# Altium schematic symbol library XSS_Connector.SchLib: 182 symbols
Pins are listed as number, name and electrical type; pins without a type are passive.

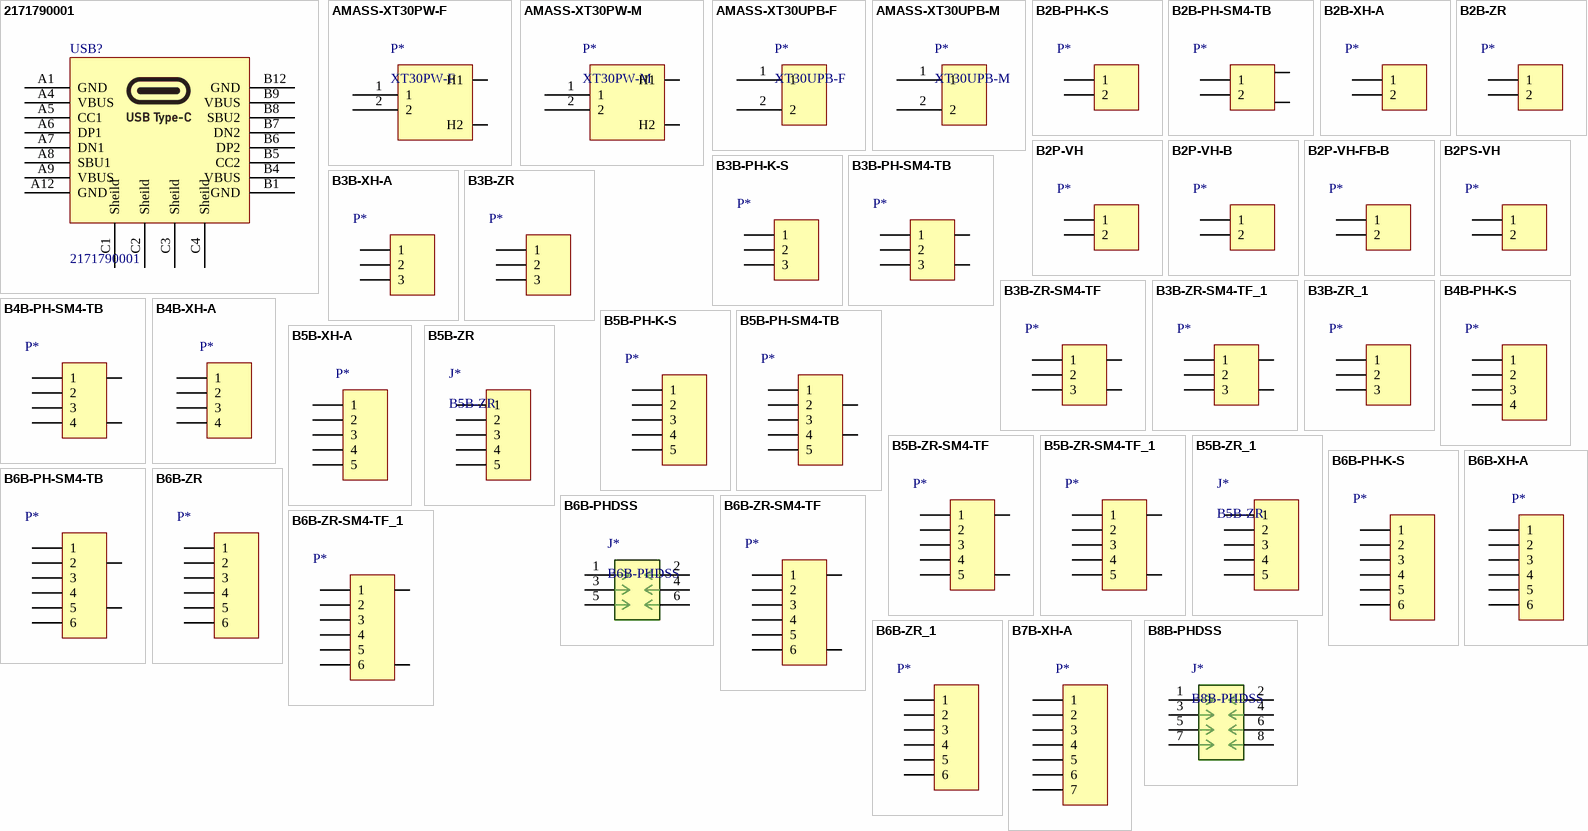
[diagram p0: symbols 2171790001 to B8B-PHDSS]

## 2171790001
designator USB?
Molex, Universal Serial Bus (USB) Shielded I/O Receptacle, Type C, Right-Angle, Surface Mount, Top Mount, Single Row, 16 Circuits, Gold (Au) Plating, length:6.5; Silkscreen: USB
footprint XKB-U262-16XN-4BS165 (HelloXKB,USB Type C Interface, 16 contact, Top-Mount, 6.5 length)
pins: A1 GND, A4 VBUS, A5 CC1, A6 DP1, A7 DN1, A8 SBU1, A9 VBUS, A12 GND, B1 GND, B4 VBUS, B5 CC2, B6 DP2, B7 DN2, B8 SBU2, B9 VBUS, B12 GND, C1 Sheild, C2 Sheild, C3 Sheild, C4 Sheild

## AMASS-XT30PW-F
designator P*, comment XT30PW-F
AMASS XT30 female connector, 2Pins, Rated Current: 15A@DC 500V, 1.2mΩ
footprint AMASS_XT30PW-F (AMASS, XT30PW-F, xt30 female connector with 90 degree angle.)
pins: 1, 2, H1, H2

## AMASS-XT30PW-M
designator P*, comment XT30PW-M
AMASS XT30 male connector, 2Pins, Rated Current: 15A@DC 500V, 1.2mΩ
footprint AMASS_XT30PW-M (AMASS, XT30PW-M, xt30 male connector with 90 degree angle.)
pins: 1, 2, H1, H2

## AMASS-XT30UPB-F
designator P*, comment XT30UPB-F
AMASS XT30 female connector, 2Pins, Rated Current: 15A@DC 500V, 1.2mΩ
footprint AMASS_XT30UPB-F (AMASS, XT30UPB-F, XT30 female connector)
pins: 1, 2

## AMASS-XT30UPB-M
designator P*, comment XT30UPB-M
AMASS XT30 male connector, 2Pins, Rated Current: 15A@DC 500V, 1.2mΩ
footprint AMASS_XT30UPB-M (AMASS, XT30UPB-M, XT30 male connector)
pins: 1, 2

## B2B-PH-K-S
designator P*  (value not drawn)
B2B-PH-K-S or PH2.0 vertical throughhole,P2,Gap:2mm
footprint B2B-PH-K-S (JST PH Series, 2.0mm Gap, 2Pins, Top Entry Header)
pins: 1, 2

## B2B-PH-SM4-TB
designator P*  (value not drawn)
JST: B2B-PH-SM4-TB or PH2.0 Horizatal SMD,P2,Gap:2mm, Top Entry
footprint B2B-PH-SM4-TB (JST PH series, 2.0mm, 3P,SMT Top entry type)
pins: 1, 2, FS1, FS2

## B2B-XH-A
designator P*  (value not drawn)
JST XH Series, Pitch 2.5mm, Top Entry, 2Pins
footprint B2B-XH-A (JST XH series, Gap 2.5mm, 2Pins, Top Entry)
pins: 1, 2

## B2B-ZR
designator P*  (value not drawn)
JST ZH Series, 1.5mm Gap, Top Entry, 2Pins
footprint B2B-ZR (JST ZH series, Gap 1.5mm, 2Pins, Top Entry)
pins: 1, 2

## B2P-VH
designator P*  (value not drawn)
JST VH series, Gap 3.96mm, 2Pins, Top Entry Type
footprint B2P-VH (JST VH series, Gap 3.96mm, 2Pins, Top Entry Type)
pins: 1, 2

## B2P-VH-B
designator P*  (value not drawn)
JST VH series, Gap 3.96mm, 2Pins, Top Entry Type of PBT
footprint B2P-VH-B (JST VH series, Gap 3.96mm, 2Pins, Top Entry Type of PBT)
pins: 1, 2

## B2P-VH-FB-B
designator P*  (value not drawn)
JST VH series, Gap 3.96mm, 2Pins, Top Entry Shrouded header
footprint B2P-VH-FB-B (JST VH series, Gap 3.96mm, 2Pins, Top Entry Shrouded header)
pins: 1, 2

## B2PS-VH
designator P*  (value not drawn)
JST VH series, Gap 3.96mm, 2Pins, Side Entry Type
footprint B2PS-VH (JST VH series, Gap 3.96mm, 2Pins, Side Entry Type)
pins: 1, 2

## B3B-PH-K-S
designator P*  (value not drawn)
B3B-PH-K-S or PH2.0 vertical throughhole,P3,Gap:2mm
footprint B3B-PH-K-S (JST PH Series, 2.0mm Gap, 3Pins, Top Entry Header)
pins: 1, 2, 3

## B3B-PH-SM4-TB
designator P*  (value not drawn)
JST: B3B-PH-SM4-TB or PH2.0 Horizatal SMD,P3,Gap:2mm. Top Entry
footprint B3B-PH-SM4-TB (JST PH series, 2.0mm, 3P,SMT Top entry type)
pins: 1, 2, 3, FS1, FS2

## B3B-XH-A
designator P*  (value not drawn)
JST XH Series, Pitch 2.5mm, Top Entry, 3Pins
footprint B3B-XH-A (JST XH series, Gap 2.5mm, 3Pins, Top Entry)
pins: 1, 2, 3

## B3B-ZR
designator P*  (value not drawn)
JST ZH Series, 1.5mm Gap, Top Entry, 3Pins
footprint B3B-ZR (JST ZH series, Gap 1.5mm, 3Pins, Top Entry)
footprint B3B-ZR-3.4 (JST ZH series, Gap 1.5mm, 3Pins, Top Entry, Long Solder Tail)
pins: 1, 2, 3

## B3B-ZR-SM4-TF
designator P*  (value not drawn)
JST: B3B-ZR-SM4-TF or ZH1.5 Top entry SMD,P3,Gap:1.5mm
footprint B3B-ZR-SM4-TF (JST ZH series, 1.5mm, 3P, Top entry SMT)
pins: 1, 2, 3, FS1, FS2

## B3B-ZR-SM4-TF_1
designator P*, comment B3B-ZR-SM4-TF  (value not drawn)
JST: B3B-ZR-SM4-TF or ZH1.5 Top entry SMD,P3,Gap:1.5mm
footprint B3B-ZR-SM4-TF (JST ZH series, 1.5mm, 3P, Top entry SMT)
pins: 1, 2, 3, FS1, FS2

## B3B-ZR_1
designator P*, comment B3B-ZR  (value not drawn)
JST ZH Series, 1.5mm Gap, Top Entry, 3Pins
footprint B3B-ZR (JST ZH series, Gap 1.5mm, 3Pins, Top Entry)
footprint B3B-ZR-3.4 (JST ZH series, Gap 1.5mm, 3Pins, Top Entry, Long Solder Tail)
pins: 1, 2, 3

## B4B-PH-K-S
designator P*  (value not drawn)
B4B-PH-K-S or PH2.0 vertical throughhole,4 pins,Gap:2mm
footprint B4B-PH-K-S (JST PH Series, 2.0mm Gap, 4Pins, Top Entry Header)
pins: 1, 2, 3, 4

## B4B-PH-SM4-TB
designator P*  (value not drawn)
JST: B4B-PH-SM4-TB or PH2.0 Horizatal SMD,P4, Gap:2mm. Top Entry
footprint S4B-PH-SM4-TB (JST PH series, 2.0mm, 4P)
footprint B4B-PH-SM4-TB (JST PH series, 2.0mm, 4P,SMT Top entry type)
pins: 1, 2, 3, 4, FS1, FS2

## B4B-XH-A
designator P*  (value not drawn)
JST XH Series, Pitch 2.5mm, Top Entry, 4Pins
footprint B4B-XH-A (JST XH series, Gap 2.5mm, 4Pins, Top Entry)
pins: 1, 2, 3, 4

## B5B-PH-K-S
designator P*  (value not drawn)
B5B-PH-K-S or PH2.0 vertical throughhole,5 pins,Gap:2mm
footprint B5B-PH-K-S (JST PH Series, 2.0mm Gap, 5Pins, Top Entry Header)
pins: 1, 2, 3, 4, 5

## B5B-PH-SM4-TB
designator P*  (value not drawn)
JST: B5B-PH-SM4-TB or PH2.0 Horizatal SMD,P5, Gap:2mm, Top Entry
footprint B5B-PH-SM4-TB (JST PH series, 2.0mm, 5P,SMT Top entry type)
pins: 1, 2, 3, 4, 5, FS1, FS2

## B5B-XH-A
designator P*  (value not drawn)
JST XH Series, Pitch 2.5mm, Top Entry, 5Pins
footprint B5B-XH-A (JST XH series, Gap 2.5mm, 5Pins, Top Entry)
pins: 1, 2, 3, 4, 5

## B5B-ZR
designator J*
JST ZH Series, 1.5mm Gap, Top Entry, 5Pins
footprint B5B-ZR (JST ZH series, Gap 1.5mm, 5Pins, Top Entry)
pins: 1, 2, 3, 4, 5

## B5B-ZR-SM4-TF
designator P*  (value not drawn)
JST: B5B-ZR-SM4-TF or ZH1.5 Top entry SMD,5P,Gap:1.5mm
footprint B5B-ZR-SM4-TF (JST ZH series, 1.5mm, 5P, Top entry SMT)
pins: 1, 2, 3, 4, 5, FS1, FS2

## B5B-ZR-SM4-TF_1
designator P*, comment B5B-ZR-SM4-TF  (value not drawn)
JST: B5B-ZR-SM4-TF or ZH1.5 Top entry SMD,5P,Gap:1.5mm
footprint B5B-ZR-SM4-TF (JST ZH series, 1.5mm, 5P, Top entry SMT)
pins: 1, 2, 3, 4, 5, FS1, FS2

## B5B-ZR_1
designator J*, comment B5B-ZR
JST ZH Series, 1.5mm Gap, Top Entry, 5Pins
footprint B5B-ZR (JST ZH series, Gap 1.5mm, 5Pins, Top Entry)
pins: 1, 2, 3, 4, 5

## B6B-PH-K-S
designator P*  (value not drawn)
B6B-PH-K-S or PH2.0 vertical throughhole,5 pins,Gap:2mm
footprint B6B-PH-K-S (JST PH Series, 2.0mm Gap, 6Pins, Top Entry Header)
pins: 1, 2, 3, 4, 5, 6

## B6B-PH-SM4-TB
designator P*  (value not drawn)
JST: B6B-PH-SM4-TB or PH2.0 Horizatal SMD,P6, Gap:2mm, Top Entry
footprint B6B-PH-SM4-TB (JST PH series, 2.0mm, 6P,SMT Top entry type)
pins: 1, 2, 3, 4, 5, 6, FS1, FS2

## B6B-PHDSS
designator J*
JST PHD Series, 2.0mm Gap, Double Row, 6 Circuit, Top Entry Header
footprint B6B-PHDSS (JST PHD Series, 2.0mm Gap, Double Row, 6 Circuit, Top Entry Header)
pins: 1, 2, 3, 4, 5, 6

## B6B-XH-A
designator P*  (value not drawn)
JST XH Series, Pitch 2.5mm, Top Entry, 6Pins
footprint B6B-XH-A (JST XH series, Gap 2.5mm, 6Pins, Top Entry)
pins: 1, 2, 3, 4, 5, 6

## B6B-ZR
designator P*  (value not drawn)
JST: B6B-ZR or ZR1.5, Top Entry, 6P,Gap:1.5mm
footprint B6B-ZR-SM4-TF (JST ZH series, 1.5mm, 6P, Top Entry SMT)
pins: 1, 2, 3, 4, 5, 6

## B6B-ZR-SM4-TF
designator P*  (value not drawn)
JST: B6B-ZR-SM4-TF or ZR1.5, Side Entry, 6P,Gap:1.5mm
footprint B6B-ZR-SM4-TF (JST ZH series, 1.5mm, 6P, Top Entry SMT)
pins: 1, 2, 3, 4, 5, 6, FS1, FS2

## B6B-ZR-SM4-TF_1
designator P*, comment B6B-ZR-SM4-TF  (value not drawn)
JST: B6B-ZR-SM4-TF or ZR1.5, Side Entry, 6P,Gap:1.5mm
footprint B6B-ZR-SM4-TF (JST ZH series, 1.5mm, 6P, Top Entry SMT)
pins: 1, 2, 3, 4, 5, 6, FS1, FS2

## B6B-ZR_1
designator P*, comment B6B-ZR  (value not drawn)
JST: B6B-ZR or ZR1.5, Top Entry, 6P,Gap:1.5mm
footprint B6B-ZR-SM4-TF (JST ZH series, 1.5mm, 6P, Top Entry SMT)
pins: 1, 2, 3, 4, 5, 6

## B7B-XH-A
designator P*  (value not drawn)
JST XH Series, Pitch 2.5mm, Top Entry, 7Pins
footprint B7B-XH-A (JST XH series, Gap 2.5mm, 7Pins, Top Entry)
pins: 1, 2, 3, 4, 5, 6, 7

## B8B-PHDSS
designator J*
JST PHD Series, 2.0mm Gap, Double Row, 8 Circuit, Top Entry Header
footprint B8B-PHDSS (JST PHD Series, 2.0mm Gap, Double Row, 8 Circuit, Top Entry Header)
pins: 1, 2, 3, 4, 5, 6, 7, 8

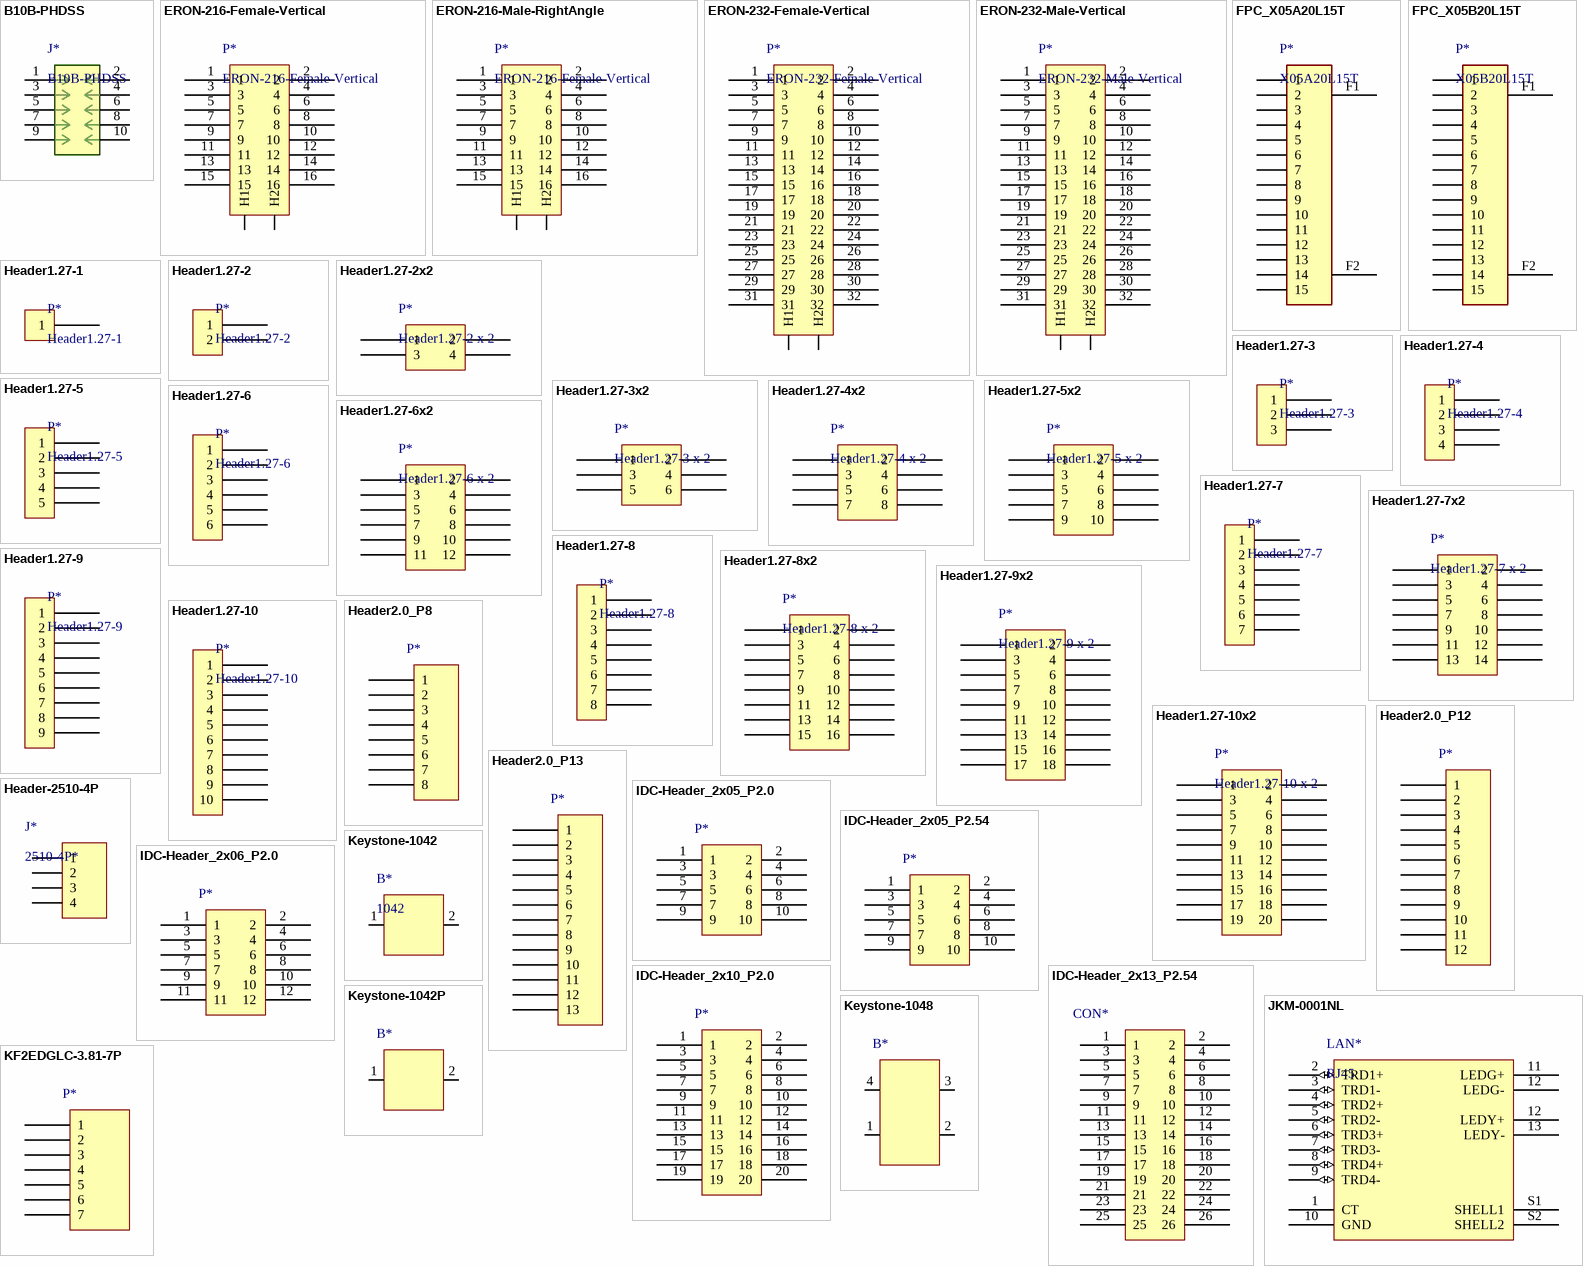
[diagram p1: symbols B10B-PHDSS to KF2EDGLC-3.81-7P]

## B10B-PHDSS
designator J*
JST PHD Series, 2.0mm Gap, Double Row, 10 Circuit, Top Entry Header
footprint B10B-PHDSS (JST PHD Series, 2.0mm Gap, Double Row, 10 Circuit, Top Entry Header)
pins: 1, 2, 3, 4, 5, 6, 7, 8, 9, 10

## ERON-216-Female-Vertical
designator P*
欧式插座,2x8=16pins, female, vertical,gap 2.54mm
footprint ERON-216-FV (欧标插座，16Pin=2x8, 母孔，直插)
pins: 1, 2, 3, 4, 5, 6, 7, 8, 9, 10, 11, 12, 13, 14, 15, 16, H1, H2

## ERON-216-Male-RightAngle
designator P*, comment ERON-216-Female-Vertical
欧式插座,2x8=16pins, male, right angle,gap 2.54mm
footprint ERON-216-MR (欧标插座，16Pin=2x8, 公针，弯)
pins: 1, 2, 3, 4, 5, 6, 7, 8, 9, 10, 11, 12, 13, 14, 15, 16, H1, H2

## ERON-232-Female-Vertical
designator P*
欧式插座,2x16=32pins, female, vertical,gap 2.54mm.  Demo type: 9001-36321C00A(WingTAT)
footprint ERON-232-FV (欧标插座，32Pin=2x16, 母孔，直插)
pins: 1, 2, 3, 4, 5, 6, 7, 8, 9, 10, 11, 12, 13, 14, 15, 16, 17, 18, 19, 20, 21, 22, 23, 24, 25, 26, 27, 28, 29, 30, 31, 32, H1, H2

## ERON-232-Male-Vertical
designator P*
欧式插座,2x16=32pins, Male, vertical,gap 2.54mm. Demo type: 9001-37321C00A(WingTAT)
footprint ERON-232-MV (欧标插座，32Pin=2x16, 公针，直插)
pins: 1, 2, 3, 4, 5, 6, 7, 8, 9, 10, 11, 12, 13, 14, 15, 16, 17, 18, 19, 20, 21, 22, 23, 24, 25, 26, 27, 28, 29, 30, 31, 32, H1, H2

## FPC_X05A20L15T
designator P*, comment X05A20L15T
XKB, FPC连接器 0.5mm 翻盖式 H=2.0mm 下接 15P 镀锡
footprint X05A20L15T (XKB, FPC Connector, X05A20L Series,Pitch:0.5, 15P)
pins: 1, 2, 3, 4, 5, 6, 7, 8, 9, 10, 11, 12, 13, 14, 15, F1 (power), F2 (power)

## FPC_X05B20L15T
designator P*, comment X05B20L15T
XKB, FPC连接器 0.5mm 抽拉式 H=2.0mm 下接 15P 镀锡
footprint X05B20L15T (XKB, FPC Connector, X05B20L Series, Pitch:0.5, 15P)
pins: 1, 2, 3, 4, 5, 6, 7, 8, 9, 10, 11, 12, 13, 14, 15, F1 (power), F2 (power)

## Header1.27-1
designator P*
Header with 1.27mm gap, 1pin
footprint Header_1.27_H_01 (Horizontal, 1.27mm gap,90° bended, 1 Pin)
footprint Header_1.27_V_01 (Horizontal, 1.27mm gap, 0°, 1 Pin)
pins: 1

## Header1.27-2
designator P*
Header with 1.27mm gap, 2pin
footprint Header_1.27_H_02 (Horizontal, 1.27mm gap,90° bended, 2 Pin)
footprint Header_1.27_VSMDL_02 (Horizontal, 1.27mm gap, 0°, SMD Left, 2 Pin)
footprint Header_1.27_VSMDR_02 (Horizontal, 1.27mm gap, 0°, SMD Right, 2 Pin)
footprint Header_1.27_V_02 (Horizontal, 1.27mm gap, 0°, 2 Pin)
pins: 1, 2

## Header1.27-2x2
designator P*, comment Header1.27-2 x 2
Header with 1.27mm gap, 2x2 pins
footprint Header_1.27_VSMD_2 X 02 (Horizontal, 1.27mm gap, 0°, SMD, 2 X 2 PinS)
footprint Header_1.27_V_2 x 02 (Horizontal,1.27mm gap, 0°, 2 x 2 Pins)
footprint Header_1.27_H_2 x 02 (Horizontal,1.27mm gap, 90° bended, 2 x 2 Pins)
pins: 1, 2, 3, 4

## Header1.27-3
designator P*
Header with 1.27mm gap, 3pin
footprint Header_1.27_H_03 (Horizontal, 1.27mm gap,90° bended, 3 Pin)
footprint Header_1.27_VSMDL_03 (Horizontal, 1.27mm gap, 0°, SMD Left, 3 Pin)
footprint Header_1.27_VSMDR_03 (Horizontal, 1.27mm gap, 0°, SMD Right, 3 Pin)
footprint Header_1.27_V_03 (Horizontal, 1.27mm gap, 0°,  3 Pin)
pins: 1, 2, 3

## Header1.27-3x2
designator P*, comment Header1.27-3 x 2
Header with 1.27mm gap, 3x2 pins
footprint Header_1.27_H_2 x 03 (Horizontal,1.27mm gap, 90° bended, 2 x 3 Pins)
footprint Header_1.27_VSMD_2 X 03 (Horizontal, 1.27mm gap, 0°, SMD, 2 X 3 PinS)
footprint Header_1.27_V_2 x 03 (Horizontal, 1.27mm gap, 0°, 2 x 3 Pins)
pins: 1, 2, 3, 4, 5, 6

## Header1.27-4
designator P*
Header with 1.27mm gap, 4pin
footprint Header_1.27_H_04 (Horizontal, 1.27mm gap,90° bended, 4 Pin)
footprint Header_1.27_VSMDL_04 (Horizontal, 1.27mm gap, 0°, SMD Left, 4 Pin)
footprint Header_1.27_VSMDR_04 (Horizontal, 1.27mm gap, 0°, SMD Right, 4 Pin)
footprint Header_1.27_V_04 (Horizontal, 1.27mm gap, 0°,  4 Pin)
pins: 1, 2, 3, 4

## Header1.27-4x2
designator P*, comment Header1.27-4 x 2
Header with 1.27mm gap, 4x2 pins
footprint Header_1.27_H_2 x 04 (Horizontal,1.27mm gap, 90° bended, 2 x 4 Pins)
footprint Header_1.27_VSMD_2 X 04 (Horizontal, 1.27mm gap, 0°, SMD, 2 X 4 PinS)
footprint Header_1.27_V_2 x 04 (Horizontal, 1.27mm gap, 0°, 2 x 4 Pins)
pins: 1, 2, 3, 4, 5, 6, 7, 8

## Header1.27-5
designator P*
Header with 1.27mm gap, 5pin
footprint Header_1.27_H_05 (Horizontal, 1.27mm gap,90° bended, 5 Pin)
footprint Header_1.27_VSMDL_05 (Horizontal, 1.27mm gap, 0°, SMD Left, 5 Pin)
footprint Header_1.27_VSMDR_05 (Horizontal, 1.27mm gap, 0°, SMD Right, 5 Pin)
footprint Header_1.27_V_05 (Horizontal, 1.27mm gap, 0°, 5 Pin)
pins: 1, 2, 3, 4, 5

## Header1.27-5x2
designator P*, comment Header1.27-5 x 2
Header with 1.27mm gap, 5x2 pins
footprint Header_1.27_H_2 x 05 (Horizontal,1.27mm gap, 90° bended, 2 x 5 Pins)
footprint Header_1.27_V_2 x 05 (Horizontal, 1.27mm gap, 0°, 2 x 5 Pins)
footprint Header_1.27_VSMD_2 X 05 (Horizontal, 1.27mm gap, 0°, SMD, 2 X 5 PinS)
pins: 1, 2, 3, 4, 5, 6, 7, 8, 9, 10

## Header1.27-6
designator P*
Header with 1.27mm gap, 6pin
footprint Header_1.27_VSMDL_06 (Horizontal, 1.27mm gap, 0°, SMD Left, 6 Pin)
footprint Header_1.27_VSMDR_06 (Horizontal, 1.27mm gap, 0°, SMD Right, 6 Pin)
footprint Header_1.27_H_06 (Horizontal, 1.27mm gap,90° bended, 6 Pin)
footprint Header_1.27_V_06 (Horizontal, 1.27mm gap, 0°, 6 Pin)
pins: 1, 2, 3, 4, 5, 6

## Header1.27-6x2
designator P*, comment Header1.27-6 x 2
Header with 1.27mm gap, 6x2 pins
footprint Header_1.27_H_2 x 06 (Horizontal,1.27mm gap, 90° bended, 2 x 6 Pins)
footprint Header_1.27_VSMD_2 X 06 (Horizontal, 1.27mm gap, 0°, SMD, 2 X 6 PinS)
footprint Header_1.27_V_2 x 06 (Horizontal, 1.27mm gap, 0°, 2 x 6 Pins)
pins: 1, 2, 3, 4, 5, 6, 7, 8, 9, 10, 11, 12

## Header1.27-7
designator P*
Header with 1.27mm gap, 7pin
footprint Header_1.27_H_07 (Horizontal, 1.27mm gap,90° bended, 7 Pin)
footprint Header_1.27_VSMDL_07 (Horizontal, 1.27mm gap, 0°, SMD Left, 7 Pin)
footprint Header_1.27_VSMDR_07 (Horizontal, 1.27mm gap, 0°, SMD Right, 7 Pin)
footprint Header_1.27_V_07 (Horizontal, 1.27mm gap, 0°, 7 Pin)
pins: 1, 2, 3, 4, 5, 6, 7

## Header1.27-7x2
designator P*, comment Header1.27-7 x 2
Header with 1.27mm gap, 7x2 pins
footprint Header_1.27_H_2 x 07 (Horizontal,1.27mm gap, 90° bended, 2 x 7 Pins)
footprint Header_1.27_VSMD_2 X 07 (Horizontal, 1.27mm gap, 0°, SMD, 2 X 7 PinS)
footprint Header_1.27_V_2 x 07 (Horizontal, 1.27mm gap, 0°, 2 x 7 Pins)
pins: 1, 2, 3, 4, 5, 6, 7, 8, 9, 10, 11, 12, 13, 14

## Header1.27-8
designator P*
Header with 1.27mm gap, 8pin
footprint Header_1.27_H_08 (Horizontal, 1.27mm gap,90° bended, 8 Pin)
footprint Header_1.27_VSMDL_08 (Horizontal, 1.27mm gap, 0°, SMD Left, 8 Pin)
footprint Header_1.27_VSMDR_08 (Horizontal, 1.27mm gap, 0°, SMD Left, 8 PinHorizontal, 1.27mm gap, 0°, SMD Right, 8 Pin)
footprint Header_1.27_V_08 (Horizontal, 1.27mm gap, 0°, 8 Pin)
pins: 1, 2, 3, 4, 5, 6, 7, 8

## Header1.27-8x2
designator P*, comment Header1.27-8 x 2
Header with 1.27mm gap, 8x2 pins
footprint Header_1.27_H_2 x 08 (Horizontal,1.27mm gap, 90° bended, 2 x 8 Pins)
footprint Header_1.27_VSMD_2 X 08 (Horizontal, 1.27mm gap, 0°, SMD, 2 X 8 PinS)
footprint Header_1.27_V_2 x 08 (Horizontal, 1.27mm gap, 0°, 2 x 8 Pins)
pins: 1, 2, 3, 4, 5, 6, 7, 8, 9, 10, 11, 12, 13, 14, 15, 16

## Header1.27-9
designator P*
Header with 1.27mm gap, 9pin
footprint Header_1.27_H_09 (Horizontal, 1.27mm gap,90° bended, 9 Pin)
footprint Header_1.27_VSMDL_09 (Horizontal, 1.27mm gap, 0°, SMD Left, 9 Pin)
footprint Header_1.27_VSMDR_09 (Horizontal, 1.27mm gap, 0°, SMD Left, 9 PinHorizontal, 1.27mm gap, 0°, SMD Right, 9 Pin)
footprint Header_1.27_H_09 (Horizontal, 1.27mm gap,90° bended, 9 Pin)
footprint Header_1.27_V_09 (Horizontal, 1.27mm gap, 0°, 9 Pin)
pins: 1, 2, 3, 4, 5, 6, 7, 8, 9

## Header1.27-9x2
designator P*, comment Header1.27-9 x 2
Header with 1.27mm gap, 9x2 pins
footprint Header_1.27_H_2 x 09 (Horizontal,1.27mm gap, 90° bended, 2 x 9 Pins)
footprint Header_1.27_VSMD_2 X 09 (Horizontal, 1.27mm gap, 0°, SMD, 2 X 9 PinS)
footprint Header_1.27_V_2 x 09 (Horizontal, 1.27mm gap, 0°, 2 x 9 Pins)
pins: 1, 2, 3, 4, 5, 6, 7, 8, 9, 10, 11, 12, 13, 14, 15, 16, 17, 18

## Header1.27-10
designator P*
Header with 1.27mm gap, 10pin
footprint Header_1.27_H_10 (Horizontal, 1.27mm gap,90° bended, 10 Pin)
footprint Header_1.27_VSMDL_10 (Horizontal, 1.27mm gap, 0°, SMD Left, 10 Pin)
footprint Header_1.27_VSMDR_10 (Horizontal, 1.27mm gap, 0°, SMD Right, 10 Pin)
footprint Header_1.27_V_10 (Horizontal, 1.27mm gap, 0°, 10 Pin)
pins: 1, 2, 3, 4, 5, 6, 7, 8, 9, 10

## Header1.27-10x2
designator P*, comment Header1.27-10 x 2
Header with 1.27mm gap, 10x2 pins
footprint Header_1.27_H_2 x 10 (Horizontal,1.27mm gap, 90° bended, 2 x 10 Pins)
footprint Header_1.27_VSMD_2 X 10 (Horizontal, 1.27mm gap, 0°, SMD, 2 X 10 PinS)
footprint Header_1.27_V_2 x 10 (Horizontal, 1.27mm gap, 0°, 2 x 10 Pins)
pins: 1, 2, 3, 4, 5, 6, 7, 8, 9, 10, 11, 12, 13, 14, 15, 16, 17, 18, 19, 20

## Header2.0_P8
designator P*, comment Header2.0_12  (value not drawn)
footprint Header 2.0*8 (2.0mm, P8)
pins: 1 (power), 2 (power), 3 (power), 4 (power), 5 (power), 6 (power), 7 (power), 8 (power)

## Header2.0_P12
designator P*, comment Header2.0_12  (value not drawn)
footprint Header 2.0*12 (2.0mm, P12)
pins: 1 (power), 2 (power), 3 (power), 4 (power), 5 (power), 6 (power), 7 (power), 8 (power), 9 (power), 10 (power), 11 (power), 12 (power)

## Header2.0_P13
designator P*, comment Header2.0_13  (value not drawn)
Header, 2.0mm,13 Pin
footprint Header 2.0*13 (2.0mm, P13)
pins: 1 (power), 2 (power), 3 (power), 4 (power), 5 (power), 6 (power), 7 (power), 8 (power), 9 (power), 10 (power), 11 (power), 12 (power), 13 (power)

## Header-2510-4P
designator J*, comment 2510-4P*
2510-4P is a 4-pins fan connector. The gap is 2.54mm.
footprint Header-2510-4P
pins: 1, 2, 3, 4

## IDC-Header_2x05_P2.0
designator P*  (value not drawn)
IDC connector, 2x5 pins, 2.0mm gap
footprint IDC-Header_2x05_P2.0 (IDC Connector with 2x5 pins and the gap of two pins is 2.0mm)
pins: 1, 2, 3, 4, 5, 6, 7, 8, 9, 10

## IDC-Header_2x05_P2.54
designator P*  (value not drawn)
IDC connector, 2x5 pins, 2.54mm gap
footprint IDC-Header_2x05_P2.54 (IDC Connector with 2x5 pins and the gap of two pins is 2.54mm)
pins: 1, 2, 3, 4, 5, 6, 7, 8, 9, 10

## IDC-Header_2x06_P2.0
designator P*  (value not drawn)
IDC connector, 2x6 pins, 2.0mm gap
footprint IDC-Header_2x06_P2.0 (IDC Connector with 2x6 pins and the gap of two pins is 2.0mm)
pins: 1, 2, 3, 4, 5, 6, 7, 8, 9, 10, 11, 12

## IDC-Header_2x10_P2.0
designator P*, comment IDC*  (value not drawn)
IDC connector, 2x10 pins, 2.0mm gap
footprint IDC-Header_2x10_P2.0 (IDC Connector with 2x10 pins and the gap of two pins is 2.0mm)
pins: 1, 2, 3, 4, 5, 6, 7, 8, 9, 10, 11, 12, 13, 14, 15, 16, 17, 18, 19, 20

## IDC-Header_2x13_P2.54
designator CON*, comment IDC_2x13  (value not drawn)
IDC Connector with 2.54 gap,2x13 pins
footprint IDC-Header_2x13H_P2.54 (IDC Connector with 2x13 pins and the gap of two pins is 2.54mm)
footprint IDC-Header_2x13V_P2.54 (IDC Connector with 2x13 pins and the gap of two pins is 2.54mm)
pins: 1, 2, 3, 4, 5, 6, 7, 8, 9, 10, 11, 12, 13, 14, 15, 16, 17, 18, 19, 20, 21, 22, 23, 24, 25, 26

## JKM-0001NL
designator LAN*, comment RJ45
single port RJ45 connector  from pulsejack
footprint JKM-0001NL (RJ45 interface from pulse)
pins: 1 CT, 2 TRD1+ (io), 3 TRD1- (io), 4 TRD2+ (io), 5 TRD2- (io), 6 TRD3+ (io), 7 TRD3- (io), 8 TRD4+ (io), 9 TRD4- (io), 10 GND (power), 11 LEDG+, 12 LEDG-, 12 LEDY+, 13 LEDY-, S1 SHELL1, S2 SHELL2

## Keystone-1042
designator B*, comment 1042
Keystone 1042 battery case, for 1 Type 18650 battery
footprint KEYSTONE_1042 (KEYSTONE Battery Case 1042 for Type 18650)
pins: 1 -, 2 +

## Keystone-1042P
designator B*, comment 1042P  (value not drawn)
Keystone 1042P battery case, for 1 Type 18650 battery,
footprint KEYSTONE_1042P (KEYSTONE Battery Case 1042P for Type 18650)
pins: 1 -, 2 +

## Keystone-1048
designator B*, comment 1048  (value not drawn)
Keystone 1048 battery case, for 2x Type 18650 battery,
footprint KEYSTONE_1048 (KEYSTONE Battery Case 1048 for Type 18650 x 2)
pins: 1 -, 2 +, 3 -, 4 +

## KF2EDGLC-3.81-7P
designator P*  (value not drawn)
插拔式接线端子，间距3.81，7P, 45度斜上方插入
footprint KF2EDGLC-3.81-7P (gap:3.81, 7P, 45°angle)
pins: 1, 2, 3, 4, 5, 6, 7

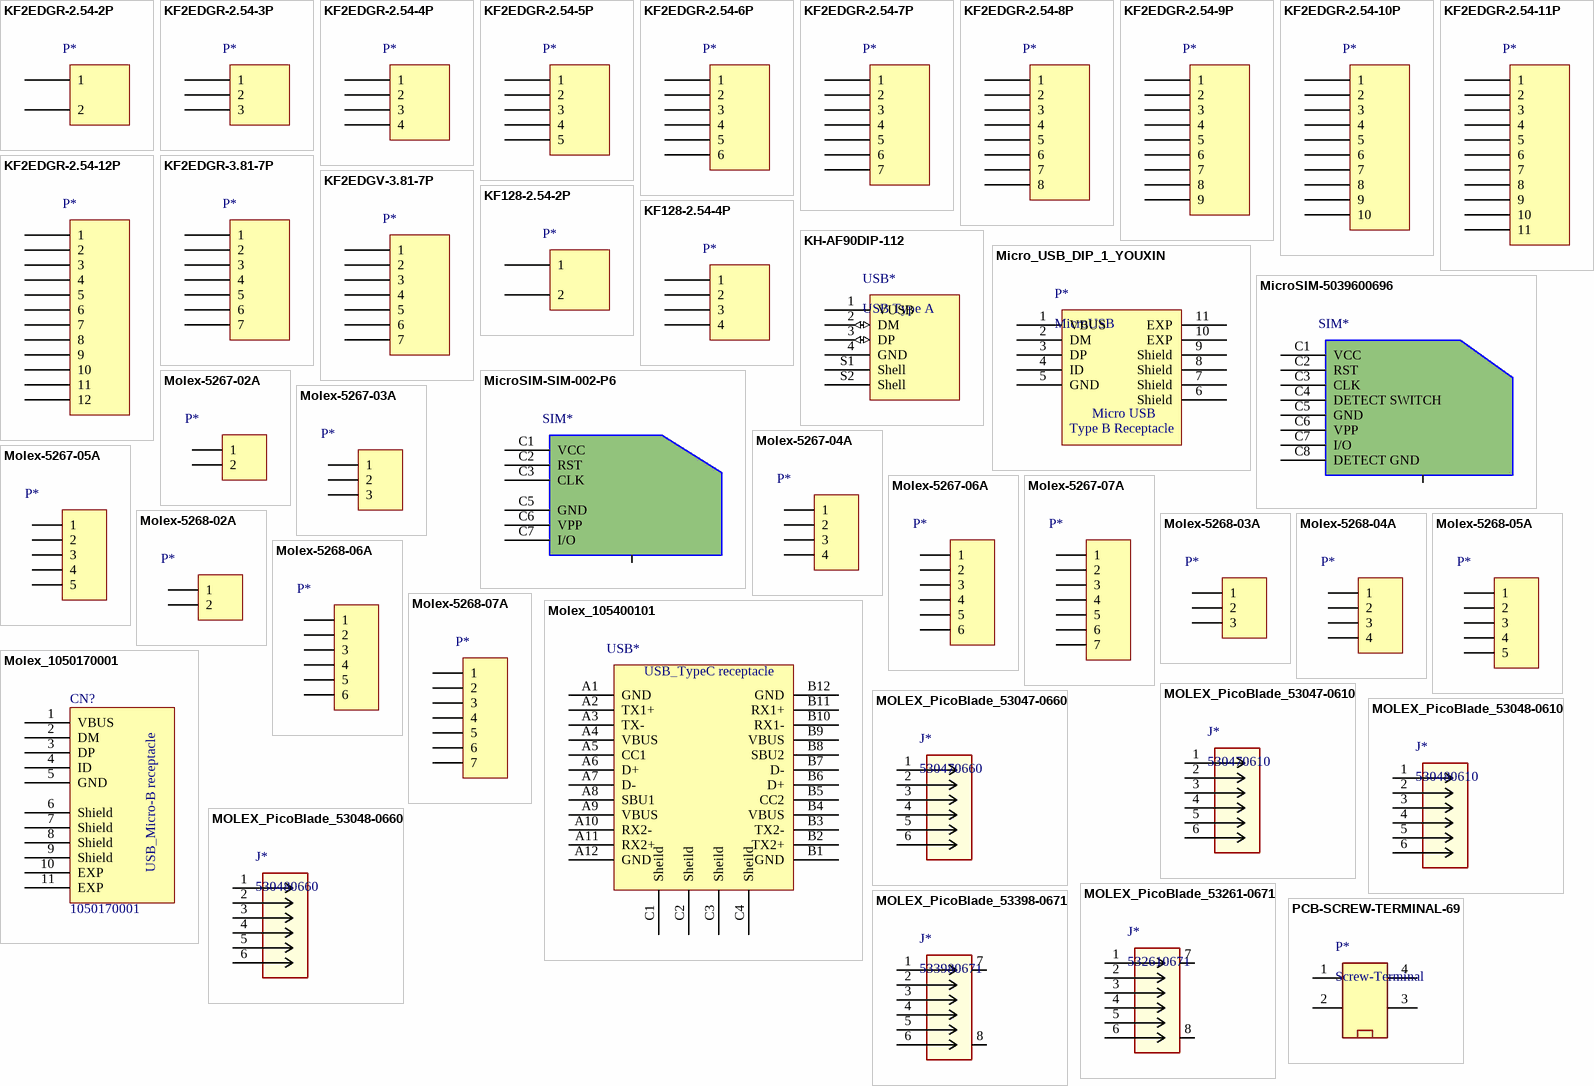
[diagram p2: symbols KF2EDGR-2.54-2P to PCB-SCREW-TERMINAL-69]

## KF2EDGR-2.54-2P
designator P*  (value not drawn)
插拔式接线端子，间距2.54，2P
footprint KF2EDGR-2.54-2P (gap:2.54, 2P)
pins: 1, 2

## KF2EDGR-2.54-3P
designator P*  (value not drawn)
插拔式接线端子，间距2.54，3P
footprint KF2EDGR-2.54-3P (gap:2.54, 3P)
pins: 1, 2, 3

## KF2EDGR-2.54-4P
designator P*  (value not drawn)
插拔式接线端子，间距2.54，4P
footprint KF2EDGR-2.54-4P (gap:2.54, 4P)
pins: 1, 2, 3, 4

## KF2EDGR-2.54-5P
designator P*  (value not drawn)
插拔式接线端子，间距2.54，5P
footprint KF2EDGR-2.54-5P (gap:2.54, 5P)
pins: 1, 2, 3, 4, 5

## KF2EDGR-2.54-6P
designator P*  (value not drawn)
插拔式接线端子，间距2.54，6P
footprint KF2EDGR-2.54-6P (gap:2.54, 6P)
pins: 1, 2, 3, 4, 5, 6

## KF2EDGR-2.54-7P
designator P*  (value not drawn)
插拔式接线端子，间距2.54，7P
footprint KF2EDGR-2.54-7P (gap:2.54, 7P)
pins: 1, 2, 3, 4, 5, 6, 7

## KF2EDGR-2.54-8P
designator P*  (value not drawn)
插拔式接线端子，间距2.54，8P
footprint KF2EDGR-2.54-8P (gap:2.54, 8P)
pins: 1, 2, 3, 4, 5, 6, 7, 8

## KF2EDGR-2.54-9P
designator P*  (value not drawn)
插拔式接线端子，间距2.54，9P
footprint KF2EDGR-2.54-9P (gap:2.54, 9P)
pins: 1, 2, 3, 4, 5, 6, 7, 8, 9

## KF2EDGR-2.54-10P
designator P*  (value not drawn)
插拔式接线端子，间距2.54，10P
footprint KF2EDGR-2.54-10P (gap:2.54, 10P)
pins: 1, 2, 3, 4, 5, 6, 7, 8, 9, 10

## KF2EDGR-2.54-11P
designator P*  (value not drawn)
插拔式接线端子，间距2.54，11P
footprint KF2EDGR-2.54-11P (gap:2.54, 11P)
pins: 1, 2, 3, 4, 5, 6, 7, 8, 9, 10, 11

## KF2EDGR-2.54-12P
designator P*  (value not drawn)
插拔式接线端子，间距2.54，12P
footprint KF2EDGR-2.54-12P (gap:2.54, 12P)
pins: 1, 2, 3, 4, 5, 6, 7, 8, 9, 10, 11, 12

## KF2EDGR-3.81-7P
designator P*  (value not drawn)
插拔式接线端子，间距3.81，7P, 右插
footprint KF2EDGR-3.81-7P (gap:3.81, 7P, right angle)
pins: 1, 2, 3, 4, 5, 6, 7

## KF2EDGV-3.81-7P
designator P*  (value not drawn)
插拔式接线端子，间距3.81，7P, 直插
footprint KF2EDGV-3.81-7P (gap:3.81, 7P, vertical)
pins: 1, 2, 3, 4, 5, 6, 7

## KF128-2.54-2P
designator P*  (value not drawn)
KF128, gap-2.54, 2pins
footprint KF128-2.54x2P (gap:2.54, 2P)
pins: 1 (power), 2 (power)

## KF128-2.54-4P
designator P*  (value not drawn)
KF128, gap-2.54, 4pins
footprint KF128-2.54x4P (gap:2.54, 4P)
pins: 1 (power), 2 (power), 3 (power), 4 (power)

## KH-AF90DIP-112
designator USB*, comment USB Type A
USB Type A Connector, KH-AF90DIP-112 , from  Kinghelm, 90°, DIP
footprint KH-AF90DIP-112 (USB TYPE A connector. 90° DIP , Kinghelm)
pins: 1 VUSB (power), 2 DM (io), 3 DP (io), 4 GND (power), S1 Shell, S2 Shell

## Micro_USB_DIP_1_YOUXIN
designator P*, comment MicroUSB
Get this kind of MicroUSB connector from YouXin
footprint micro_usb_dip_1 (buy it from youxin elec)
pins: 1 VBUS, 2 DM, 3 DP, 4 ID, 5 GND, 6 Shield, 7 Shield, 8 Shield, 9 Shield, 10 EXP, 11 EXP
text: Micro USB; Type B Receptacle

## MicroSIM-5039600696
designator SIM*, comment 5039600696  (value not drawn)
1.42mm Height micro-SIM Card Connector, 1.00mm Pitch, Push-Push, Surface Mount, Normal Mount, with Detect Switch, Stainless Steel Shell, 6 Circuits
footprint Molex-5039600696 (1.42mm Height micro-SIM Card Connector, 1.00mm Pitch, Push-Push, Surface Mount, Normal Mount, with Detect Switch, Stainless Steel Shell, 6 Circuits)
pins: C1 VCC, C2 RST, C3 CLK, C4 DETECT SWITCH, C5 GND, C6 VPP, C7 I/O, C8 DETECT GND, PAD "SHIELD"

## MicroSIM-SIM-002-P6
designator SIM*, comment SIM-002-P6  (value not drawn)
SOFNG MICRO SIM PUSH-PUSH Socket with 6Pins
footprint SOFNG-SIM-002-P6
pins: C1 VCC, C2 RST, C3 CLK, C5 GND, C6 VPP, C7 I/O, PAD

## Molex-5267-02A
designator P*, comment 5267-02A  (value not drawn)
2.50mm Pitch, Mini-SPOX PCB Header, Single Row, Vertical, Through Hole, Tin Plating, 2 Circuits, Bag, 3.50mm PC Tail Length
footprint Molex-5267-02a (Molex Mini-SPOX series,vertical headers,22035025)
pins: 1, 2

## Molex-5267-03A
designator P*, comment 5267-03A  (value not drawn)
2.50mm Pitch, Mini-SPOX PCB Header, Single Row, Vertical, Through Hole, Tin Plating, 3 Circuits, Bag, 3.50mm PC Tail Length
footprint Molex-5267-03a (Molex Mini-SPOX series,vertical headers,22035035)
pins: 1, 2, 3

## Molex-5267-04A
designator P*, comment 5267-04A  (value not drawn)
2.50mm Pitch, Mini-SPOX PCB Header, Single Row, Vertical, Through Hole, Tin Plating, 4 Circuits, Bag, 3.50mm PC Tail Length
footprint Molex-5267-04a (Molex Mini-SPOX series,vertical headers,22035045)
pins: 1, 2, 3, 4

## Molex-5267-05A
designator P*, comment 5267-05A  (value not drawn)
2.50mm Pitch, Mini-SPOX PCB Header, Single Row, Vertical, Through Hole, Tin Plating, 5 Circuits, Bag, 3.50mm PC Tail Length
footprint Molex-5267-05a (Molex Mini-SPOX series,vertical headers,22035055)
pins: 1, 2, 3, 4, 5

## Molex-5267-06A
designator P*, comment 5267-06A  (value not drawn)
2.50mm Pitch, Mini-SPOX PCB Header, Single Row, Vertical, Through Hole, Tin Plating, 6 Circuits, Bag, 3.50mm PC Tail Length
footprint Molex-5267-06a (Molex Mini-SPOX series,vertical headers,22035065)
pins: 1, 2, 3, 4, 5, 6

## Molex-5267-07A
designator P*, comment 5267-07A  (value not drawn)
2.50mm Pitch, Mini-SPOX PCB Header, Single Row, Vertical, Through Hole, Tin Plating, 7 Circuits, Bag, 3.50mm PC Tail Length
footprint Molex-5267-07a (Molex Mini-SPOX series,vertical headers22035075)
pins: 1, 2, 3, 4, 5, 6, 7

## Molex-5268-02A
designator P*, comment 5268-02A  (value not drawn)
2.50mm Pitch, Mini-SPOX PCB Header, Single Row, Through Hole, Tin Plating, Friction Lock, 2 Circuits, Bag, 3.50mm PC Tail Length
footprint Molex-5268-02a (Molex Mini-SPOX series,right angle headers,22057025)
pins: 1, 2

## Molex-5268-03A
designator P*, comment 5268-03A  (value not drawn)
2.50mm Pitch, Mini-SPOX PCB Header, Single Row, Through Hole, Tin Plating, Friction Lock, 3 Circuits, Bag, 3.50mm PC Tail Length
footprint Molex-5268-03a (Molex Mini-SPOX series,right angle headers,22057035)
pins: 1, 2, 3

## Molex-5268-04A
designator P*, comment 5268-04A  (value not drawn)
2.50mm Pitch, Mini-SPOX PCB Header, Single Row, Through Hole, Tin Plating, Friction Lock, 4 Circuits, Bag, 3.50mm PC Tail Length
footprint Molex-5268-04a (Molex Mini-SPOX series,right angle headers,22057045)
pins: 1, 2, 3, 4

## Molex-5268-05A
designator P*, comment 5268-05A  (value not drawn)
2.50mm Pitch, Mini-SPOX PCB Header, Single Row, Through Hole, Tin Plating, Friction Lock, 5 Circuits, Bag, 3.50mm PC Tail Length
footprint Molex-5268-05a (Molex Mini-SPOX series,right angle headers,22057055)
pins: 1, 2, 3, 4, 5

## Molex-5268-06A
designator P*, comment 5268-06A  (value not drawn)
2.50mm Pitch, Mini-SPOX PCB Header, Single Row, Through Hole, Tin Plating, Friction Lock, 6 Circuits, Bag, 3.50mm PC Tail Length
footprint Molex-5268-06a (Molex Mini-SPOX series,right angle headers,22057065)
pins: 1, 2, 3, 4, 5, 6

## Molex-5268-07A
designator P*, comment 5268-07A  (value not drawn)
2.50mm Pitch, Mini-SPOX PCB Header, Single Row, Through Hole, Tin Plating, Friction Lock, 7 Circuits, Bag, 3.50mm PC Tail Length
footprint Molex-5268-07a (Molex Mini-SPOX series,right angle headers,22057075)
pins: 1, 2, 3, 4, 5, 6, 7

## Molex_105400101
designator USB*, comment USB TypeC  (value not drawn)
Molex USB type C receptace; ComponentLink1Description: Product Link; ComponentLink1URL: https://www.chinese.molex.com/molex/products/datasheet.jsp?part=active/1054500101_IO_CONNECTORS.xml
footprint MOLEX_1054500101 (molex USB Type C Interface)
pins: A1 GND, A2 TX1+, A3 TX-, A4 VBUS, A5 CC1, A6 D+, A7 D-, A8 SBU1, A9 VBUS, A10 RX2-, A11 RX2+, A12 GND, B1 GND, B2 TX2+, B3 TX2-, B4 VBUS, B5 CC2, B6 D+, B7 D-, B8 SBU2, B9 VBUS, B10 RX1-, B11 RX1+, B12 GND, C1 Sheild, C2 Sheild, C3 Sheild, C4 Sheild
text: USB_TypeC receptacle

## Molex_1050170001
designator CN?, comment 1050170001
Molex micro USB receptace; Silkscreen: USB
footprint Molex_1050170001 (USB Micro-B Connector)
pins: 1 VBUS, 2 DM, 3 DP, 4 ID, 5 GND, 6 Shield, 7 Shield, 8 Shield, 9 Shield, 10 EXP, 11 EXP
text: USB_Micro-B receptacle

## MOLEX_PicoBlade_53047-0610
designator J*, comment 530470610
MOLEX, PicoBlade Header with 1.25mm gap distance, 53047-0610, Through hole, Vertical type with 6 Circuit.
footprint MOLEX_PicoBlade_53047-0610 (MOLEX, PicoBlade Header with 1.25mm gap distance, 53047-0610, Through hole, Vertical type with 6 Circuit.)
pins: 1, 2, 3, 4, 5, 6

## MOLEX_PicoBlade_53047-0660
designator J*, comment 530470660
MOLEX, PicoBlade Header with 1.25mm gap distance, 53047-0660, Through hole, Vertical type with 6 Circuit.
footprint MOLEX_PicoBlade_53047-0660 (MOLEX, PicoBlade Header with 1.25mm gap distance, 53047-0660, Through hole, Vertical type with 6 Circuit.)
pins: 1, 2, 3, 4, 5, 6

## MOLEX_PicoBlade_53048-0610
designator J*, comment 530480610
MOLEX, PicoBlade Header with 1.25mm gap distance, 53048-0610, Through hole, Right-Angle Type with 6 Circuit.
footprint MOLEX_PicoBlade_53048-0610 (MOLEX, PicoBlade Header with 1.25mm gap distance, 53048-0610, Through hole, Right-Angle Type with 6 Circuit.)
pins: 1, 2, 3, 4, 5, 6

## MOLEX_PicoBlade_53048-0660
designator J*, comment 530480660
MOLEX, PicoBlade Header with 1.25mm gap distance, 53048-0660, Through hole, Right-Angle Type with 6 Circuit.
footprint MOLEX_PicoBlade_53048-0660 (MOLEX, PicoBlade Header with 1.25mm gap distance, 53048-0660, Through hole, Right-Angle Type with 6 Circuit.)
pins: 1, 2, 3, 4, 5, 6

## MOLEX_PicoBlade_53261-0671
designator J*, comment 532610671
MOLEX, PicoBlade Header with 1.25mm gap distance, 53261-0671, SMT, Right-Angle Type with 6 Circuit.
footprint MOLEX_PicoBlade_53261-0671 (MOLEX, PicoBlade Header with 1.25mm gap distance, 53261-0671, SMT, Right-Angle Type with 6 Circuit.)
pins: 1, 2, 3, 4, 5, 6, 7 F1, 8 F2

## MOLEX_PicoBlade_53398-0671
designator J*, comment 533980671
MOLEX, PicoBlade Header with 1.25mm gap distance, 53398-0671, SMT, Vertical Type with 6 Circuit.
footprint MOLEX_PicoBlade_53398-0671 (MOLEX, PicoBlade Header with 1.25mm gap distance, 53398-0671, SMT, Vertical Type with 6 Circuit.)
pins: 1, 2, 3, 4, 5, 6, 7 F1, 8 F2

## PCB-SCREW-TERMINAL-69
designator P*, comment Screw-Terminal
PCB Screw Terminal, 6.3x9x9, 4pins
footprint PCB-SCREW-TERMINAL-69-M3 (PCB screw terminal, 6.3x9x9, 4pins, M3)
pins: 1 PAD, 2 PAD, 3 PAD, 4 PAD

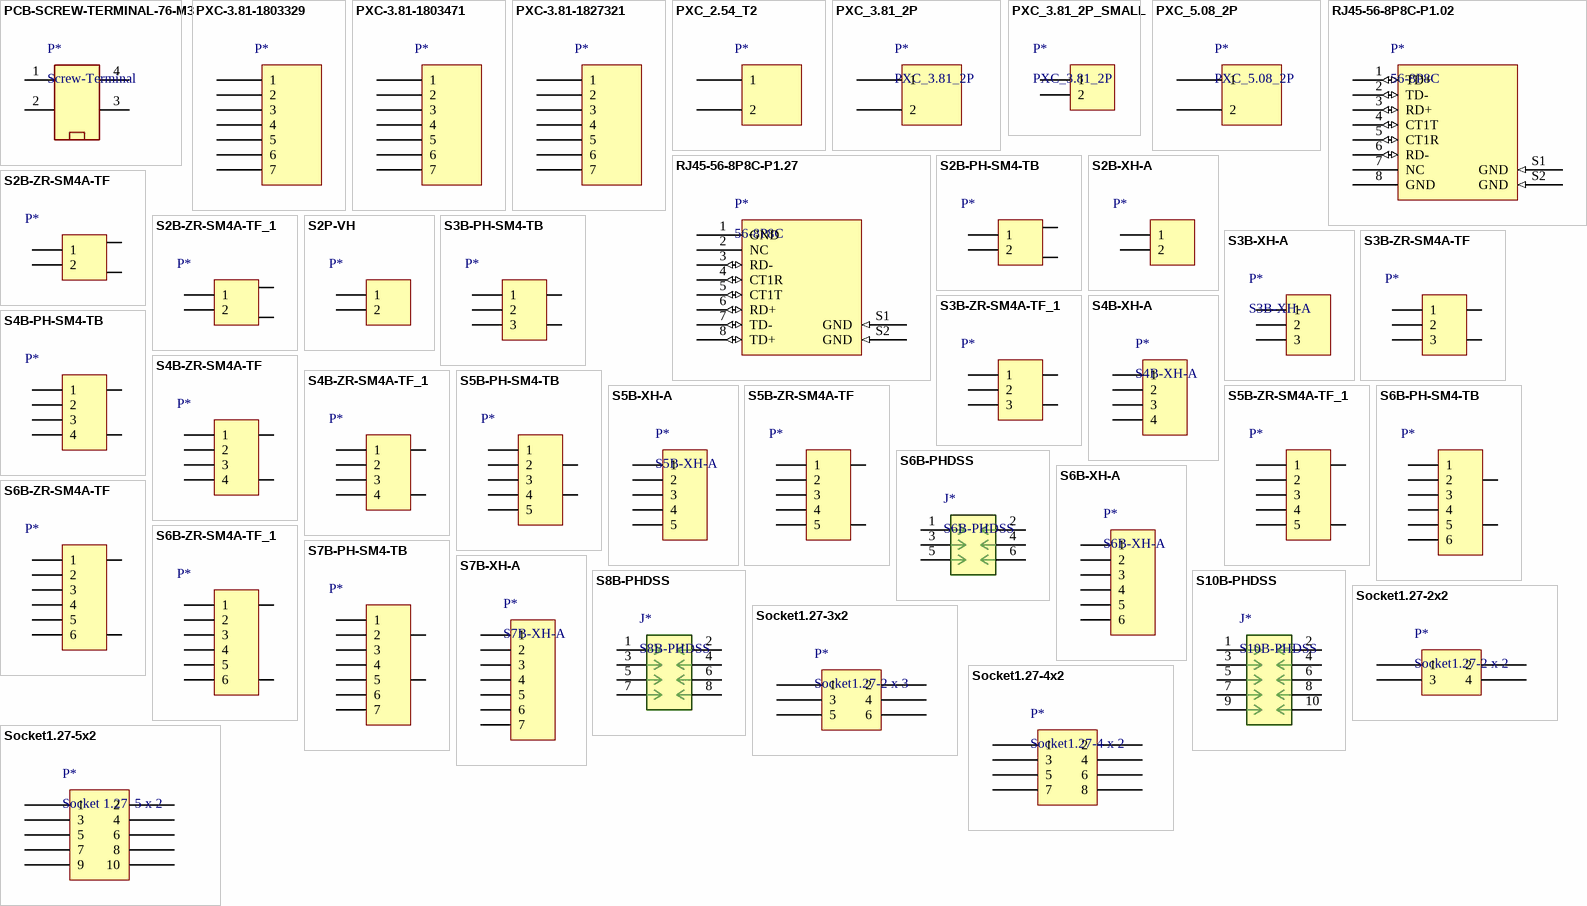
[diagram p3: symbols PCB-SCREW-TERMINAL-76-M3 to Socket1.27-5x2]

## PCB-SCREW-TERMINAL-76-M3
designator P*, comment Screw-Terminal
PCB Screw Terminal, 8x11x11.5, 4pins
footprint PCB-SCREW-TERMINAL-76-M3 (PCB screw terminal, 8x11x11.5, 4pins, M3, pin gap:7.2x5)
pins: 1 PAD, 2 PAD, 3 PAD, 4 PAD

## PXC-3.81-1803329
designator P*  (value not drawn)
插拔式接线端子，间距3.81，7P, 右侧插入
footprint PXC_3.81_1803329 (gap:3.81, 7P, right angle)
pins: 1, 2, 3, 4, 5, 6, 7

## PXC-3.81-1803471
designator P*  (value not drawn)
插拔式接线端子，间距3.81，7P, 直插
footprint PXC_3.81_1803471 (gap:3.81, 7P, vertical)
pins: 1, 2, 3, 4, 5, 6, 7

## PXC-3.81-1827321
designator P*  (value not drawn)
插拔式接线端子，间距3.81，7P, 45度斜上方插入
footprint PXC_3.81_1827321 (gap:3.81, 7P, 45°angle)
pins: 1, 2, 3, 4, 5, 6, 7

## PXC_2.54_T2
designator P*, comment PXC_2.54_T2_2P  (value not drawn)
Phoenix Contact, 2.54mm,2P, 1725656 。No plug in
footprint pxc_2.54_T2_2P (Phoenix no Plug in Terminal Bloack. 2P, Product no. : 1725656)
footprint pxc_2.54_T2_2P-MI (Phoenix no Plug in Terminal Bloack. 2P, Product no. : 1725656)
pins: 1 (power), 2 (power)

## PXC_3.81_2P
designator P*
Phoenix Contact, 3.81mm,2P,1803277。[Its'Plug is 1850660]
footprint pxc_3.81_2P
pins: 1 (power), 2 (power)

## PXC_3.81_2P_SMALL
designator P*, comment PXC_3.81_2P
Phoenix Contact, 3.81mm,2P,1803277。[Its'Plug is 1850660]
footprint pxc_3.81_2P
pins: 1, 2

## PXC_5.08_2P
designator P*
Phoenix Contact, 5.08mm,2P,1923869。[Its'Plug is 1911965]
footprint pxc_5.08_2P
pins: 1 (power), 2 (power)

## RJ45-56-8P8C-P1.02
designator P*, comment 56-8P8C
ccobalance 56-8p8c， RJ45 connector. pitch 1.02mm
footprint RJ45-56-8P8C-P1.02 (CCOBALANCE,56-8p8c,without LED, without contact,pitch 1.02mm)
pins: 1 TD+ (io), 2 TD- (io), 3 RD+ (io), 4 CT1T (io), 5 CT1R (io), 6 RD- (io), 7 NC, 8 GND (power), S1 GND (in), S2 GND (in)

## RJ45-56-8P8C-P1.27
designator P*, comment 56-8P8C
ccobalance 56-8p8c， RJ45 connector. pitch 1.27mm
footprint RJ45-56-8P8C-P1.27 (CCOBALANCE,56-8p8c,without LED, without contact, pitch 1.27mm)
pins: 1 GND (power), 2 NC, 3 RD- (io), 4 CT1R (io), 5 CT1T (io), 6 RD+ (io), 7 TD- (io), 8 TD+ (io), S1 GND (in), S2 GND (in)

## S2B-PH-SM4-TB
designator P*  (value not drawn)
JST: S2B-PH-SM4-TB or PH2.0 Horizatal SMD,P2,Gap:2mm
footprint S2B-PH-SM4-TB (JST PH series, 2.0mm, 2P)
pins: 1, 2, FS1, FS2

## S2B-XH-A
designator P*  (value not drawn)
JST XH Series, Pitch 2.5mm, Side Entry, 2Pins
footprint S2B-XH-A (JST XH series, Gap 2.5mm, 2Pins, Side Entry)
pins: 1, 2

## S2B-ZR-SM4A-TF
designator P*  (value not drawn)
JST: S2B-ZR-SM4A-TF or ZR1.5, Side Entry, 2P,Gap:1.5mm
footprint S2B-ZR-SM4A-TF (JST PH series, 1.5mm, 2P)
pins: 1, 2, FS1, FS2

## S2B-ZR-SM4A-TF_1
designator P*, comment S2B-ZR-SM4A-TF  (value not drawn)
JST: S2B-ZR-SM4A-TF or ZR1.5, Side Entry, 2P,Gap:1.5mm
footprint S2B-ZR-SM4A-TF (JST PH series, 1.5mm, 2P)
pins: 1, 2, FS1, FS2

## S2P-VH
designator P*  (value not drawn)
JST VH series, Gap 3.96mm, 2Pins, Side Entry Type with PCB stabilizer
footprint S2P-VH (JST VH series, Gap 3.96mm, 2Pins, Side Entry Type with PCB stabilizer)
pins: 1, 2

## S3B-PH-SM4-TB
designator P*  (value not drawn)
JST: S3B-PH-SM4-TB or PH2.0 Horizatal SMD,P3,Gap:2mm
footprint S3B-PH-SM4-TB (JST PH series, 2.0mm, 3P)
pins: 1, 2, 3, FS1, FS2

## S3B-XH-A
designator P*
JST XH Series, Pitch 2.5mm, Side Entry, 3Pins
footprint S3B-XH-A (JST XH series, Gap 2.5mm, 3Pins, Side Entry)
pins: 1, 2, 3

## S3B-ZR-SM4A-TF
designator P*  (value not drawn)
JST: S3B-ZR-SM4A-TF or ZR1.5, Side Entry, 3P,Gap:1.5mm
footprint S3B-ZR-SM4A-TF (JST PH series, 1.5mm, 3P)
footprint S3B-ZR-SM4A-TF-M (JST ZH series, 1.5mm, 3P)
pins: 1, 2, 3, FS1, FS2

## S3B-ZR-SM4A-TF_1
designator P*, comment S3B-ZR-SM4A-TF  (value not drawn)
JST: S3B-ZR-SM4A-TF or ZR1.5, Side Entry, 3P,Gap:1.5mm
footprint S3B-ZR-SM4A-TF (JST PH series, 1.5mm, 3P)
footprint S3B-ZR-SM4A-TF-M (JST ZH series, 1.5mm, 3P)
pins: 1, 2, 3, FS1, FS2

## S4B-PH-SM4-TB
designator P*  (value not drawn)
JST: S4B-PH-SM4-TB or PH2.0 Horizatal SMD,P4, Gap:2mm
footprint S4B-PH-SM4-TB (JST PH series, 2.0mm, 4P)
footprint S4B-PH-SM4-TB_S (JST PH series, 2.0mm, 4P)
pins: 1, 2, 3, 4, FS1, FS2

## S4B-XH-A
designator P*
JST XH Series, Pitch 2.5mm, Side Entry, 4Pins
footprint S4B-XH-A (JST XH series, Gap 2.5mm, 4Pins, Side Entry)
pins: 1, 2, 3, 4

## S4B-ZR-SM4A-TF
designator P*  (value not drawn)
JST: S4B-ZR-SM4A-TF or ZR1.5, Side Entry, 4P,Gap:1.5mm
footprint S4B-ZR-SM4A-TF (JST PH series, 1.5mm, 4P)
pins: 1, 2, 3, 4, FS1, FS2

## S4B-ZR-SM4A-TF_1
designator P*, comment S4B-ZR-SM4A-TF  (value not drawn)
JST: S4B-ZR-SM4A-TF or ZR1.5, Side Entry, 4P,Gap:1.5mm
footprint S4B-ZR-SM4A-TF (JST PH series, 1.5mm, 4P)
pins: 1, 2, 3, 4, FS1, FS2

## S5B-PH-SM4-TB
designator P*  (value not drawn)
JST: S5B-PH-SM4-TB or PH2.0 Horizatal SMD,P5, Gap:2mm
footprint S5B-PH-SM4-TB (JST PH series, 2.0mm, 5P)
pins: 1, 2, 3, 4, 5, FS1, FS2

## S5B-XH-A
designator P*
JST XH Series, Pitch 2.5mm, Side Entry, 5Pins
footprint S5B-XH-A (JST XH series, Gap 2.5mm, 5Pins, Side Entry)
pins: 1, 2, 3, 4, 5

## S5B-ZR-SM4A-TF
designator P*  (value not drawn)
JST: S5B-ZR-SM4A-TF or ZH1.5, Side entry SMD,5P,Gap:1.5mm
footprint S5B-ZR-SM4A-TF (JST PH series, 1.5mm, 3P)
pins: 1, 2, 3, 4, 5, FS1, FS2

## S5B-ZR-SM4A-TF_1
designator P*, comment S5B-ZR-SM4A-TF  (value not drawn)
JST: S5B-ZR-SM4A-TF or ZH1.5, Side entry SMD,5P,Gap:1.5mm
footprint S5B-ZR-SM4A-TF (JST PH series, 1.5mm, 3P)
pins: 1, 2, 3, 4, 5, FS1, FS2

## S6B-PH-SM4-TB
designator P*  (value not drawn)
JST: S6B-PH-SM4-TB or PH2.0 Horizatal SMD,P6, Gap:2mm
footprint S6B-PH-SM4-TB (JST PH series, 2.0mm, 6P)
pins: 1, 2, 3, 4, 5, 6, FS1, FS2

## S6B-PHDSS
designator J*
JST PHD Series, 2.0mm Gap, Double Row, 6 Circuit, Side Entry Header
footprint S6B-PHDSS (JST PHD Series, 2.0mm Gap, Double Row, 6 Circuit, Side Entry Header)
pins: 1, 2, 3, 4, 5, 6

## S6B-XH-A
designator P*
JST XH Series, Pitch 2.5mm, Side Entry, 6Pins
footprint S6B-XH-A (JST XH series, Gap 2.5mm, 6Pins, Side Entry)
pins: 1, 2, 3, 4, 5, 6

## S6B-ZR-SM4A-TF
designator P*  (value not drawn)
JST: S6B-ZR-SM4A-TF or ZR1.5, Side Entry, 6P,Gap:1.5mm
footprint S6B-ZR-SM4A-TF (JST ZH series, 1.5mm, 6P)
pins: 1, 2, 3, 4, 5, 6, FS1, FS2

## S6B-ZR-SM4A-TF_1
designator P*, comment S6B-ZR-SM4A-TF  (value not drawn)
JST: S6B-ZR-SM4A-TF or ZR1.5, Side Entry, 6P,Gap:1.5mm
footprint S6B-ZR-SM4A-TF (JST ZH series, 1.5mm, 6P)
pins: 1, 2, 3, 4, 5, 6, FS1, FS2

## S7B-PH-SM4-TB
designator P*  (value not drawn)
JST: S7B-PH-SM4-TB or PH2.0 Horizatal SMD,P7, Gap:2mm
footprint S7B-PH-SM4-TB (JST PH series, 2.0mm, 7P)
pins: 1, 2, 3, 4, 5, 6, 7, FS1, FS2

## S7B-XH-A
designator P*
JST XH Series, Pitch 2.5mm, Side Entry, 7Pins
footprint S7B-XH-A (JST XH series, Gap 2.5mm, 7Pins, Side Entry)
pins: 1, 2, 3, 4, 5, 6, 7

## S8B-PHDSS
designator J*
JST PHD Series, 2.0mm Gap, Double Row, 8 Circuit, Side Entry Header
footprint S8B-PHDSS (JST PHD Series, 2.0mm Gap, Double Row, 8 Circuit, Side Entry Header)
pins: 1, 2, 3, 4, 5, 6, 7, 8

## S10B-PHDSS
designator J*
JST PHD Series, 2.0mm Gap, Double Row, 10 Circuit, Side Entry Header
footprint S10B-PHDSS (JST PHD Series, 2.0mm Gap, Double Row, 10 Circuit, Side Entry Header)
pins: 1, 2, 3, 4, 5, 6, 7, 8, 9, 10

## Socket1.27-2x2
designator P*, comment Socket1.27-2 x 2
Socket with 1.27mm gap, 2x2 pins
footprint Socket_1.27_VSMD_2 X 02 (Socket, Horizontal, 1.27mm gap, 0°, SMD, 2 X 2 PinS)
footprint Socket_1.27_V_2 x 02 (Horizontal,1.27mm gap, 0°, 2 x 2 Pins)
pins: 1, 2, 3, 4

## Socket1.27-3x2
designator P*, comment Socket1.27-2 x 3
Socket with 1.27mm gap, 3x2 pins
footprint Socket_1.27_VSMD_2 X 03 (Horizontal, 1.27mm gap, 0°, SMD, 2 X 3 PinS)
footprint Socket_1.27_V_2 x 03 (Socket, Horizontal, 1.27mm gap, 0°, 2 x 3 Pins)
pins: 1, 2, 3, 4, 5, 6

## Socket1.27-4x2
designator P*, comment Socket1.27-4 x 2
Socket with 1.27mm gap, 4x2 pins
footprint Socket_1.27_VSMD_2 X 04 (Horizontal, 1.27mm gap, 0°, SMD, 2 X 4 PinS)
footprint Socket_1.27_V_2 x 04 (Socket, Horizontal, 1.27mm gap, 0°, 2 x 4 Pins)
pins: 1, 2, 3, 4, 5, 6, 7, 8

## Socket1.27-5x2
designator P*, comment Socket 1.27  5 x 2
Socket with 1.27mm gap, 5x2 pins
footprint Socket_1.27_V_2 x 05 (Socket, Horizontal, 1.27mm gap, 0°, 2 x 5 Pins)
footprint Socket_1.27_VSMD_2 X 05 (Horizontal, 1.27mm gap, 0°, SMD, 2 X 5 PinS)
pins: 1, 2, 3, 4, 5, 6, 7, 8, 9, 10

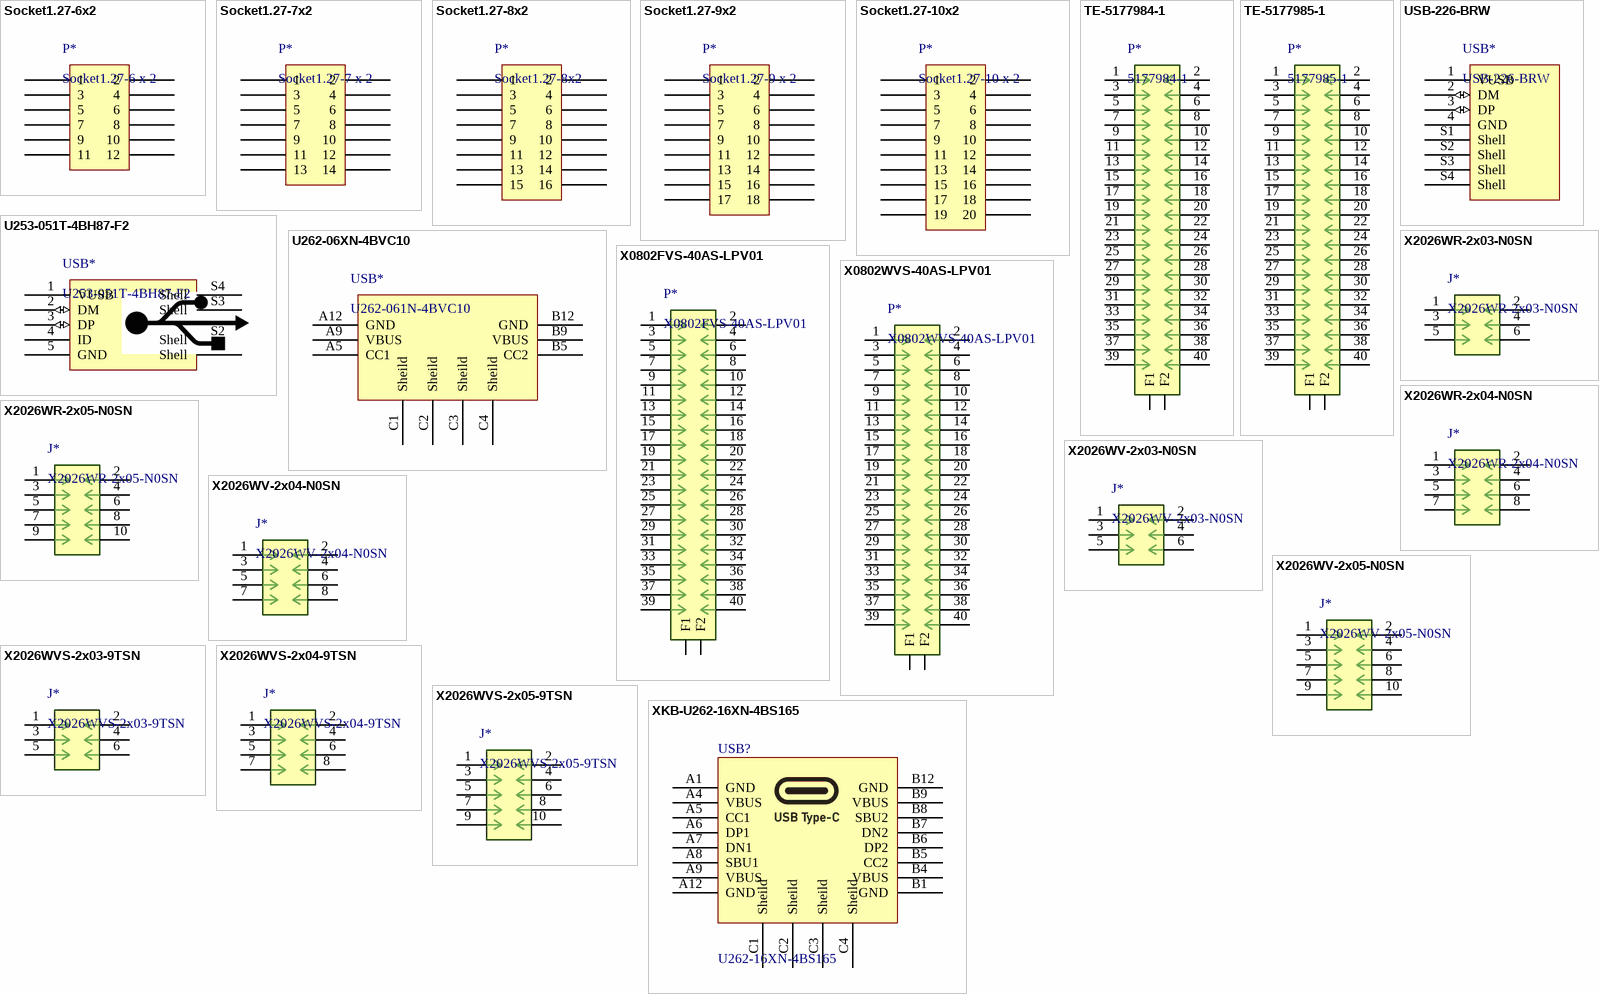
[diagram p4: symbols Socket1.27-6x2 to XKB-U262-16XN-4BS165]

## Socket1.27-6x2
designator P*, comment Socket1.27-6 x 2
Socket with 1.27mm gap, 6x2 pins
footprint Socket_1.27_VSMD_2 X 06 (Horizontal, 1.27mm gap, 0°, SMD, 2 X 6 PinS)
footprint Socket_1.27_V_2 x 06 (Socket, Horizontal, 1.27mm gap, 0°, 2 x 6 Pins)
pins: 1, 2, 3, 4, 5, 6, 7, 8, 9, 10, 11, 12

## Socket1.27-7x2
designator P*, comment Socket1.27-7 x 2
Socket with 1.27mm gap, 7x2 pins
footprint Socket_1.27_VSMD_2 X 07 (Horizontal, 1.27mm gap, 0°, SMD, 2 X 7 PinS)
footprint Socket_1.27_V_2 x 07 (Horizontal, 1.27mm gap, 0°, 2 x 7 Pins)
pins: 1, 2, 3, 4, 5, 6, 7, 8, 9, 10, 11, 12, 13, 14

## Socket1.27-8x2
designator P*
Socket with 1.27mm gap, 8x2 pins
footprint Socket_1.27_VSMD_2 X 08 (Horizontal, 1.27mm gap, 0°, SMD, 2 X 8 PinS)
footprint Socket_1.27_V_2 x 08 (Horizontal, 1.27mm gap, 0°, 2 x 8 Pins)
pins: 1, 2, 3, 4, 5, 6, 7, 8, 9, 10, 11, 12, 13, 14, 15, 16

## Socket1.27-9x2
designator P*, comment Socket1.27-9 x 2
Socket with 1.27mm gap, 9x2 pins
footprint Socket_1.27_VSMD_2 X 09 (Horizontal, 1.27mm gap, 0°, SMD, 2 X 9 PinS)
footprint Socket_1.27_V_2 x 09 (Horizontal, 1.27mm gap, 0°, 2 x 9 Pins)
pins: 1, 2, 3, 4, 5, 6, 7, 8, 9, 10, 11, 12, 13, 14, 15, 16, 17, 18

## Socket1.27-10x2
designator P*, comment Socket1.27-10 x 2
Socket with 1.27mm gap, 10x2 pins
footprint Socket_1.27_VSMD_2 X 10 (Horizontal, 1.27mm gap, 0°, SMD, 2 X 10 PinS)
footprint Socket_1.27_V_2 x 10 (Horizontal, 1.27mm gap, 0°, 2 x 10 Pins)
pins: 1, 2, 3, 4, 5, 6, 7, 8, 9, 10, 11, 12, 13, 14, 15, 16, 17, 18, 19, 20

## TE-5177984-1
designator P*, comment 5177984-1
TE Board to Board Connector, 5177984 series, male, 0.8mm gap, 40P, vertical
footprint TE-5177984-1 (TE板对板连接器，间距0.8， 40P，直插，5177984系列，male)
pins: 1, 2, 3, 4, 5, 6, 7, 8, 9, 10, 11, 12, 13, 14, 15, 16, 17, 18, 19, 20, 21, 22, 23, 24, 25, 26, 27, 28, 29, 30, 31, 32, 33, 34, 35, 36, 37, 38, 39, 40, F1, F2

## TE-5177985-1
designator P*, comment 5177985-1
TE Board to Board Connector, 5177985 series, female, 0.8mm gap, 40P, vertical
footprint TE-5177985-1 (TE板对板连接器，间距0.8， 40P，直插，5177985系列，female)
pins: 1, 2, 3, 4, 5, 6, 7, 8, 9, 10, 11, 12, 13, 14, 15, 16, 17, 18, 19, 20, 21, 22, 23, 24, 25, 26, 27, 28, 29, 30, 31, 32, 33, 34, 35, 36, 37, 38, 39, 40, F1, F2

## U253-051T-4BH87-F2
designator USB*
XKB Connectivity,U253-051T-4BH87-F2,Micro USB连接器,沉板1.17，平口，USB 2.0
footprint U253-051T-4BH87-F2 (XKB Connectivity, Micro USB Connector)
pins: 1 VUSB (power), 2 DM (io), 3 DP (io), 4 ID (power), 5 GND (power), S1 Shell, S2 Shell, S3 Shell, S4 Shell

## U262-06XN-4BVC10
designator USB*, comment U262-061N-4BVC10
U262-06XN-4BVC10, XHB USB TypeC Connector, 6 Contacts, Length 6.5
footprint U262-06XN-4BVC10 (XHB Cheap USB TypeC Connector U262-06XN-4BVC10，6P)
pins: A5 CC1, A9 VBUS, A12 GND, B5 CC2, B9 VBUS, B12 GND, C1 Sheild, C2 Sheild, C3 Sheild, C4 Sheild

## USB-226-BRW
designator USB*
XUNPU(讯普),USB-226-BRW ,USB连接器/AF侧插长体USB插座 无卷边 铁壳,19.4×14.6×7.1mm
footprint USB-226-BRW (USB TYPE A connector. 90° DIP ,无卷边,  XUNPU(讯普))
pins: 1 VUSB (power), 2 DM (io), 3 DP (io), 4 GND (power), S1 Shell, S2 Shell, S3 Shell, S4 Shell

## X0802FVS-40AS-LPV01
designator P*
XKB Board to Board Connector, 0802 series, female, 0.8mm gap, 40P, vertical
footprint X0802FVS-40AS-LPV01 (XKB板对板连接器，间距0.8， 40P，直插，0802系列，female)
pins: 1, 2, 3, 4, 5, 6, 7, 8, 9, 10, 11, 12, 13, 14, 15, 16, 17, 18, 19, 20, 21, 22, 23, 24, 25, 26, 27, 28, 29, 30, 31, 32, 33, 34, 35, 36, 37, 38, 39, 40, F1, F2

## X0802WVS-40AS-LPV01
designator P*
XKB Board to Board Connector, 0802 series, male, 0.8mm gap, 40P, vertical
footprint X0802WVS-40AS-LPV01 (XKB板对板连接器，间距0.8， 40P，直插，0802系列，wafer)
pins: 1, 2, 3, 4, 5, 6, 7, 8, 9, 10, 11, 12, 13, 14, 15, 16, 17, 18, 19, 20, 21, 22, 23, 24, 25, 26, 27, 28, 29, 30, 31, 32, 33, 34, 35, 36, 37, 38, 39, 40, F1, F2

## X2026WR-2x03-N0SN
designator J*
XKB X2026(JST PHD) Series, 2.0mm Gap, Double Row, 6 Circuit, Side Entry Header
footprint X2026WR-2x03-N0SN (XKB X2026(JST PHD) Series, 2.0mm Gap, Double Row, 6 Circuit, Side Entry Header)
pins: 1, 2, 3, 4, 5, 6

## X2026WR-2x04-N0SN
designator J*
XKB X2026(JST PHD) Series, 2.0mm Gap, Double Row, 8 Circuit, Side Entry Header
footprint X2026WR-2x04-N0SN (XKB X2026(JST PHD) Series, 2.0mm Gap, Double Row, 8 Circuit, Side Entry Header)
pins: 1, 2, 3, 4, 5, 6, 7, 8

## X2026WR-2x05-N0SN
designator J*
XKB X2026(JST PHD) Series, 2.0mm Gap, Double Row, 10 Circuit, Side Entry Header
footprint X2026WR-2x05-N0SN (XKB X2026(JST PHD) Series, 2.0mm Gap, Double Row, 10 Circuit, Side Entry Header)
pins: 1, 2, 3, 4, 5, 6, 7, 8, 9, 10

## X2026WV-2x03-N0SN
designator J*
XKB X2026(JST PHD) Series,2.0mm Gap, Double Row, 6 Circuit, Top Entry Header
footprint X2026WV-2x03-N0SN (XKB X2026(JST PHD) Series,2.0mm Gap, Double Row, 6 Circuit, Top Entry Header)
pins: 1, 2, 3, 4, 5, 6

## X2026WV-2x04-N0SN
designator J*
XKB X2026(JST PHD) Series,2.0mm Gap, Double Row, 8 Circuit, Top Entry Header
footprint X2026WV-2x04-N0SN (XKB X2026(JST PHD) Series,2.0mm Gap, Double Row, 8 Circuit, Top Entry Header)
pins: 1, 2, 3, 4, 5, 6, 7, 8

## X2026WV-2x05-N0SN
designator J*
XKB X2026(JST PHD) Series,2.0mm Gap, Double Row, 10 Circuit, Top Entry Header
footprint X2026WV-2x05-N0SN (XKB X2026(JST PHD) Series,2.0mm Gap, Double Row, 10 Circuit, Top Entry Header)
pins: 1, 2, 3, 4, 5, 6, 7, 8, 9, 10

## X2026WVS-2x03-9TSN
designator J*
XKB X2026(JST PHD) Series, 2.0mm Gap, Double Row, 6 Circuit, Top SMT Header
footprint X2026WVS-2x03-9TSN (XKB X2026(JST PHD) Series, 2.0mm Gap, Double Row, 6 Circuit, Top SMT Header)
pins: 1, 2, 3, 4, 5, 6

## X2026WVS-2x04-9TSN
designator J*
XKB X2026(JST PHD) Series, 2.0mm Gap, Double Row, 8 Circuit, Top SMT Header
footprint X2026WVS-2x04-9TSN (XKB X2026(JST PHD) Series, 2.0mm Gap, Double Row, 8 Circuit, Top SMT Header)
pins: 1, 2, 3, 4, 5, 6, 7, 8

## X2026WVS-2x05-9TSN
designator J*
XKB X2026(JST PHD) Series, 2.0mm Gap, Double Row, 10 Circuit, Top SMT Header
footprint X2026WVS-2x05-9TSN (XKB X2026(JST PHD) Series, 2.0mm Gap, Double Row, 10 Circuit, Top SMT Header)
pins: 1, 2, 3, 4, 5, 6, 7, 8, 9, 10

## XKB-U262-16XN-4BS165
designator USB?, comment U262-16XN-4BS165
XKB, Universal Serial Bus (USB) Shielded I/O Receptacle, Type C, Right-Angle, Surface Mount, Top Mount, Single Row, 16 Circuits, Gold (Au) Plating, length:6.5; Silkscreen: USB
footprint XKB-U262-16XN-4BS165 (HelloXKB,USB Type C Interface, 16 contact, Top-Mount, 6.5 length)
pins: A1 GND, A4 VBUS, A5 CC1, A6 DP1, A7 DN1, A8 SBU1, A9 VBUS, A12 GND, B1 GND, B4 VBUS, B5 CC2, B6 DP2, B7 DN2, B8 SBU2, B9 VBUS, B12 GND, C1 Sheild, C2 Sheild, C3 Sheild, C4 Sheild